# Altium footprint library 28Pins_Projects_V1I1.PcbLib: 27 footprints (part 2 of 2)
Each footprint in its own frame and in the unit in brackets; x right, y up, seen from the top. Pads: shape width x height; smd on the part's side, far side on the other; paste and mask are expansions set on the pad; w line width, h text height; cw(c..) or ccw(c..) is an arc to the next point about the centre after c.
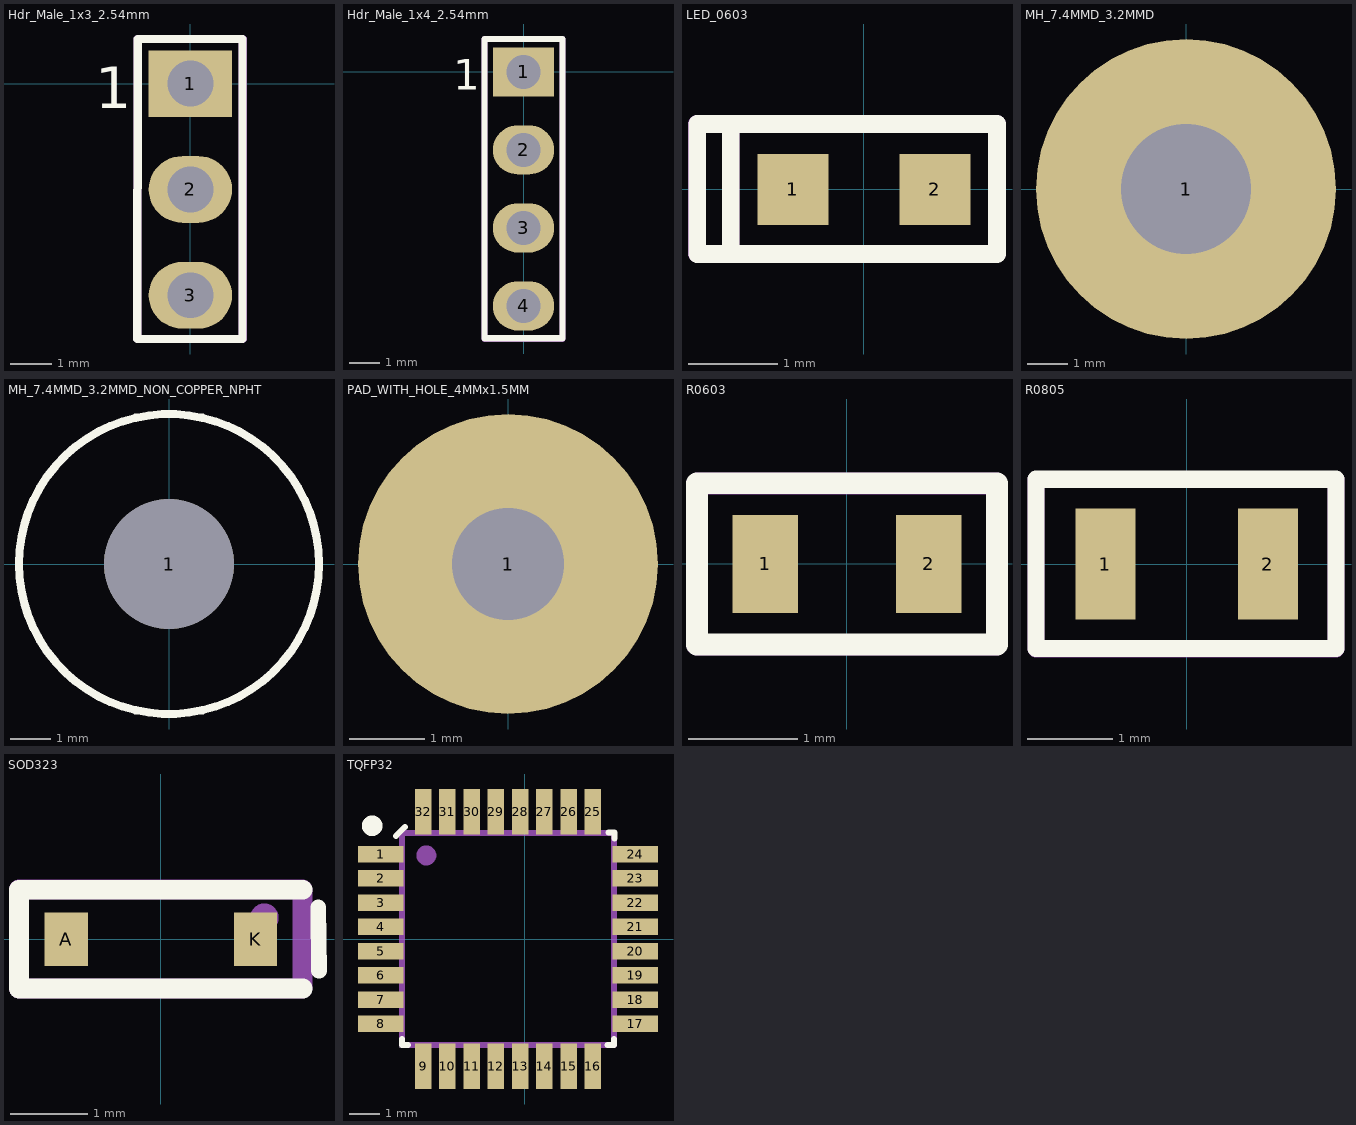
[diagram p1: the footprints below, top view; thin cyan lines are the x and y axes]

## Hdr_Male_1x3_2.54mm [mm]
pads (3):
  rect 2x1.6 hole 1.1: 1(0,0)
  oval 2x1.6 hole 1.1: 2(0,-2.54) 3(0,-5.08)
Top Overlay:
  lines w0.2: -1.272,-6.129 1.252,-6.129 1.252,1.07 -1.262,1.07 -1.272,-6.129
  text "1" at -2.281,-0.59 h1
Mechanical 29:
  circle w0.5: c-0.485,0.237 r0.254
  lines w0.2: -1.27,-6.129 1.254,-6.129 1.254,1.07 -1.27,1.07 -1.27,-6.129
  text "'.Designator'" at 0.334,-4.57 h1
3D body "HDR_1x3_White.stp": height 8.19, standoff -3.31, extent -1.27,-6.15 1.14,1.07

## Hdr_Male_1x4_2.54mm [mm]
pads (4):
  rect 2x1.6 hole 1.1: 1(0,0)
  oval 2x1.6 hole 1.1: 2(0,-2.54) 3(0,-5.08) 4(0,-7.62)
Top Overlay:
  lines w0.2: -1.27,-8.672 1.27,-8.672 1.27,1.065 -1.27,1.065 -1.27,-8.672
  text "1" at -2.281,-0.59 h1
Mechanical 29:
  circle w0.5: c-0.485,0.216 r0.254
  lines w0.2: -1.273,-8.697 1.267,-8.697 1.267,1.07 -1.273,1.07 -1.273,-8.697
  text "'.Designator'" at 0.345,-7.18 h1
3D body "HDR_1x4_White.stp": height 8.19, standoff -3.31, extent -1.205,-8.69 1.205,1.07

## LED_0603 [mm]
pads (2):
  rect 0.8x0.8 smd: 1(-0.8,0) 2(0.8,0)
Top Overlay:
  lines w0.2: -1.499,-0.729 -1.499,0.737 ; -1.499,-0.729 1.499,-0.729 1.499,0.737 -1.499,0.737 ; -1.499,-0.729 -1.877,-0.729 -1.877,0.736 -1.499,0.737
Mechanical 29:
  lines w0.2: -1.499,-0.638 -1.499,0.737 ; 1.496,-0.726 -1.88,-0.726 -1.88,0.737 1.499,0.737 1.499,-0.724
  text "'.Designator'" at -1.542,-0.183 h0.6
3D body "LED_SMD_0603.step": height 0.65, standoff 0, extent -0.841,-0.403 0.859,0.397

## MH_7.4MMD_3.2MMD [mm]
pads (1):
  round 7.4 hole 3.2: 1(0,0)

## MH_7.4MMD_3.2MMD_NON_COPPER_NPHT [mm]
pads (1):
  round 3.2 hole 3.2 unplated: 1(0,0)
Top Overlay:
  circle w0.2: c0,0 r3.7

## PAD_WITH_HOLE_4MMx1.5MM [mm]
pads (1):
  round 4 hole 1.5: 1(0,0)

## PCBComponent_1 [mm]

## R0603 [mm]
pads (2):
  rect 0.6x0.9 smd: 1(-0.75,0) 2(0.75,0)
Top Overlay:
  lines w0.2: -1.373,-0.738 -1.373,0.739 1.374,0.739 1.374,-0.738 -1.373,-0.738
Mechanical 29:
  lines w0.2: -1.372,0.733 -1.372,-0.739 1.368,-0.739 1.371,-0.736 1.371,0.736 -1.369,0.736
  text "'.Designator'" at -1.139,-0.092 h0.5
3D body "R0603.step": height 0.85, standoff 0.01, extent -0.801,-0.4 0.799,0.4

## R0805 [mm]
pads (2):
  rect 0.7x1.3 smd: 1(-0.95,0) 2(0.95,0)
Top Overlay:
  lines w0.2: -1.76,-0.988 -1.76,0.992 1.745,0.992 1.745,-0.988 -1.76,-0.988
Mechanical 29:
  lines w0.2: -1.759,-0.989 1.746,-0.989 1.746,0.991 -1.759,0.991 -1.759,-0.989
  text "'.Designator'" at -0.366,-0.04 h0.5
3D body "RESC2012x70N.step": height 0.71, standoff 0.01, extent -0.985,-0.602 1.015,0.598

## SOD323 [mil]
pads (2):
  rect 22x27 smd: A(-48,0) K(48,0)
Top Overlay:
  lines w7.87: 79.89,16.1 80.2,-16.04
  lines w10: 72,-25 -72,-25 -72,25.12 72,25.12
Mechanical 29:
  circle w10: c52.48,10.84 r2.27
  lines w10: -71.95,25.16 -71.95,-24.97 71.82,-24.97 71.82,25.18 -71.92,25.18
  text "'.Designator'" at -48.9,-17.23 h23.62
3D body "SOD323.step": height 37.4, standoff -1.57, extent -49.79,-26.74 48.64,22.48

## TQFP32 [mm]
pads (32):
  rect 1.5x0.55 smd mask+0.06: 1(-4.75,2.8) 2(-4.75,2) 3(-4.75,1.2) 4(-4.75,0.4) 5(-4.75,-0.4) 6(-4.75,-1.2) 7(-4.75,-2) 8(-4.75,-2.8) 17(3.65,-2.8) 18(3.65,-2) 19(3.65,-1.2) 20(3.65,-0.4) 21(3.65,0.4) 22(3.65,1.2) 23(3.65,2) 24(3.65,2.8)
  rect 0.55x1.5 smd mask+0.06: 9(-3.35,-4.2) 10(-2.55,-4.2) 11(-1.75,-4.2) 12(-0.95,-4.2) 13(-0.15,-4.2) 14(0.65,-4.2) 15(1.45,-4.2) 16(2.25,-4.2) 25(2.25,4.2) 26(1.45,4.2) 27(0.65,4.2) 28(-0.15,4.2) 29(-0.95,4.2) 30(-1.75,4.2) 31(-2.55,4.2) 32(-3.35,4.2)
Top Overlay:
  circle w0.5: c-5.034,3.736 r0.09
  lines w0.2: -4.249,3.4 -3.95,3.699 ; -4.05,-3.301 -4.05,-3.5 ; -3.851,-3.5 -4.05,-3.5 ; 2.732,-3.504 2.93,-3.504 ; 2.762,3.519 2.961,3.519 ; 2.941,-3.505 2.941,-3.305 ; 2.961,3.32 2.961,3.518 ; -4.05,-3.5 -4.05,-3.5 ; -4.05,-3.5 -4.051,-3.5 -4.05,-3.5 ; -3.95,3.699 -3.95,3.7 ; 2.961,3.519 2.961,3.519 ; 2.961,3.518 2.962,3.518 ; 2.962,3.518 2.961,3.519
Mechanical 29:
  circle w0.5: c-3.246,2.757 r0.079
  lines w0.2: -4.05,-3.5 -4.05,-3.499 -4.049,-3.5 2.94,-3.5 2.95,-3.49 2.95,3.5 -4.046,3.5 -4.05,3.496 -4.05,-3.5
  text ".Designator" at -2.855,-0.402 h0.8
3D body "User Library-tqfp32.step": height 1.2, standoff 0, extent -5.142,-4.573 4.056,4.626